# Altium footprint library 282834-4.PcbLib: 2 footprints
Each footprint in its own frame and in the unit in brackets; x right, y up, seen from the top. Pads: shape width x height; smd on the part's side, far side on the other; paste and mask are expansions set on the pad; w line width, h text height; cw(c..) or ccw(c..) is an arc to the next point about the centre after c.
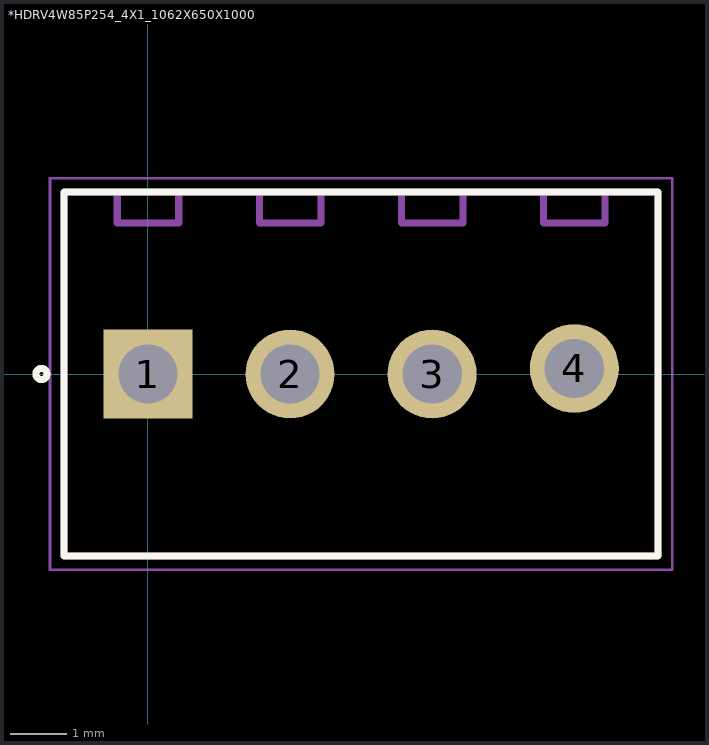
[diagram p0: the footprints below, top view; thin cyan lines are the x and y axes]

## *HDRV4W85P254_4X1_1062X650X1000 [mm]
pads (4):
  rect 1.59x1.59 hole 1.06: 1(0,0)
  round 1.59 hole 1.06: 2(2.54,0) 3(5.08,0) 4(7.62,0.1)
Top Overlay:
  circle w0.127: c-1.905,0 r0.1
  lines w0.127: -1.5,-3.25 9.12,-3.25 9.12,3.25 -1.5,3.25 -1.5,-3.25
Mechanical 4:
  lines w0.127: -1.5,-3.25 -1.5,3.25 ; -1.5,-3.25 9.12,-3.25 ; -1.5,-3.25 -1.5,3.25 ; -1.5,-3.25 9.12,-3.25 ; -1.5,3.25 9.12,3.25 ; -1.5,3.25 9.12,3.25 ; -0.55,2.7 0.55,2.7 ; -0.55,2.7 -0.55,3.2 -0.55,2.7 ; -0.55,2.7 0.55,2.7 ; 0.55,2.7 0.55,3.2 0.55,2.7 ; 1.99,2.7 3.09,2.7 ; 1.99,2.7 1.99,3.2 1.99,2.7 ; 1.99,2.7 3.09,2.7 ; 3.09,2.7 3.09,3.2 3.09,2.7 ; 4.53,2.7 5.63,2.7 ; 4.53,2.7 4.53,3.2 4.53,2.7 ; 4.53,2.7 5.63,2.7 ; 5.63,2.7 5.63,3.2 5.63,2.7 ; 7.07,2.7 8.17,2.7 ; 7.07,2.7 7.07,3.2 7.07,2.7 ; 7.07,2.7 8.17,2.7 ; 8.17,2.7 8.17,3.2 8.17,2.7 ; 9.12,-3.25 9.12,3.25 ; 9.12,-3.25 9.12,3.25
Mechanical 16:
  lines w0.05: -1.75,-3.5 -1.75,3.5 9.37,3.5 9.37,-3.5 -1.75,-3.5

## PCBComponent_1 [mil]